# Altium schematic symbol library DPSP_Switch.SCHLIB: 1 symbol
Pins are listed as number, name and electrical type; pins without a type are passive.

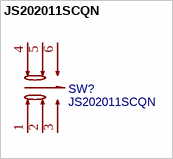
[diagram p0: symbol JS202011SCQN]

## JS202011SCQN
designator SW?
Manufacturer: C&K; Contributor: LCSC; Supplier: LCSC; Supplier Part: C221666; Manufacturer Part: JS202011SCQN; JLCPCB Part Class: Extended Part; spicePre: S; spiceSymbolName: JS202011SCQN
footprint SW-SMD_JS202011SCQN
pins: 1, 2, 3, 4, 5, 6